# Altium schematic symbol library DF5A6P2CFUTE85L,F.SchLib: 2 symbols
Pins are listed as number, name and electrical type; pins without a type are passive.

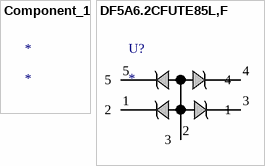
[diagram p0: symbols Component_1 to DF5A6.2CFUTE85L,F]

## Component_1
designator *

## DF5A6.2CFUTE85L,F
designator U?
No Description Available; Mfr_Name: Toshiba Electronic Devices & Storage Corp.; Source_Package: DF5A6.2CFU; Number_devices_in_Package: 1; RefDes: Refdes; Type: Type
footprint SOT-353   USV_TOS
pins: 1 2, 2 3, 3 1, 4, 5